# EAGLE library part PBH2UEESNPNAGX (library ELECTROMECH)
Pushbutton Switch DPDT Standard Through Hole, Right Angle, Latching
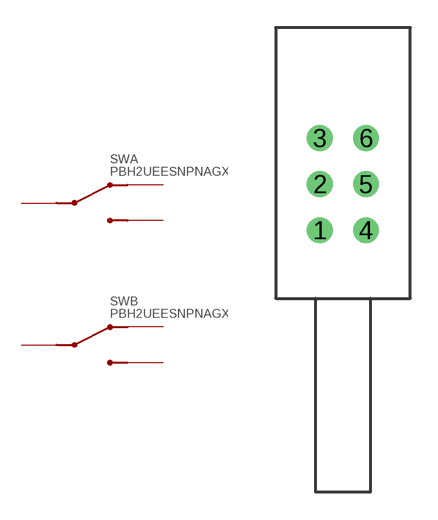
[diagram p5: symbol with the pads of PBH2UEESNPNAGX; footprint PBH2UEESNPNAGX]

Designator prefix SW; gates A=RELAY_CONTACT_SPDT B=RELAY_CONTACT_SPDT

## PBH2UEESNPNAGX (DIGIKEY: EG5925-ND; HEIGHT: 10; PRICE_PER: 0.63; VALUE: DPDT)  [PBH2UEESNPNAGX]
1  A:2
2  A:1
3  A:3
4  B:2
5  B:1
6  B:3

## Footprint PBH2UEESNPNAGX (pad centres in mm)
drill 0.9: 1 -1.25,-2.5; 2 -1.25,0; 3 -1.25,2.5; 4 1.25,-2.5; 5 1.25,0; 6 1.25,2.5